# EAGLE library part TINYPICO (library UNIT_Biblioteca_Modulos)
TinyPICO Source: Datasheet <https://www.tinypico.com/gettingstarted> SKU: Propietario: UNIT Electronics Desarrollador: Alberto Villanueva
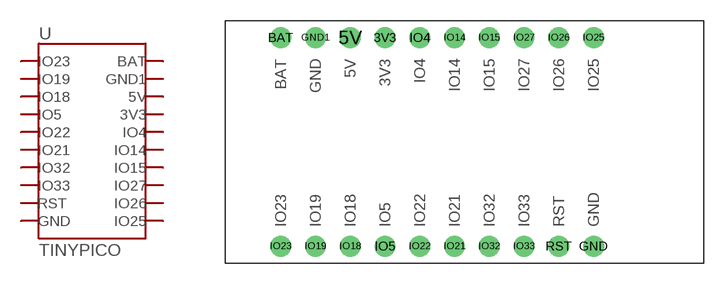
[diagram p26: symbol with the pads of TINY_PICO; footprint TINY_PICO]

Designator prefix U

## TINYPICO (CLASS: Modules; DESCRIPTION: TinyPICO, fully-featured ESP32 development board; MANUFACTURER_NAME: Unexpected Maker; MANUFACTURER_PART_NUMBER: TinyPICO; VENDOR_PART_NUMBER: TinyPICO; VENDOR_PRICE-STOCK: https://www.tinypico.com/buy)  [TINY_PICO]
3V3  3V3
5V  5V
BAT  BAT
GND  GND
GND1  GND1
IO4  IO4
IO5  IO5
IO14  IO14
IO15  IO15
IO18  IO18
IO19  IO19
IO21  IO21
IO22  IO22
IO23  IO23
IO25  IO25
IO26  IO26
IO27  IO27
IO32  IO32
IO33  IO33
RST  RST

## Footprint TINY_PICO (pad centres in mm)
drill 1.02: 3V3 11.69,16.523; 5V 9.15,16.523; BAT 4.07,16.523; GND 26.93,1.257; GND1 6.61,16.523; IO4 14.23,16.523; IO5 11.69,1.257; IO14 16.77,16.523; IO15 19.31,16.523; IO18 9.15,1.257; IO19 6.61,1.257; IO21 16.77,1.257; IO22 14.23,1.257; IO23 4.07,1.257; IO25 26.93,16.523; IO26 24.39,16.523; IO27 21.85,16.523; IO32 19.31,1.257; IO33 21.85,1.257; RST 24.39,1.257